# Altium footprint library SK32SMA-3G.PcbLib: 1 footprints
Each footprint in its own frame and in the unit in brackets; x right, y up, seen from the top. Pads: shape width x height; smd on the part's side, far side on the other; paste and mask are expansions set on the pad; w line width, h text height; cw(c..) or ccw(c..) is an arc to the next point about the centre after c.
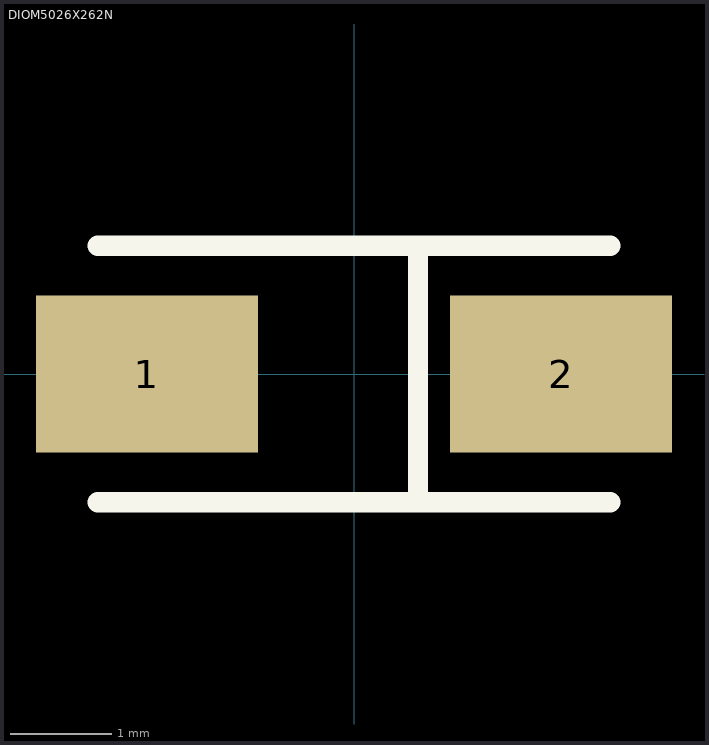
[diagram p0: the footprint, top view; thin cyan lines are the x and y axes]

## DIOM5026X262N [mm]
pads (2):
  rect 2.2x1.55 smd: 1(-2.05,0) 2(2.05,0)
Top Overlay:
  lines w0.2: -2.54,-1.27 2.54,-1.27 ; -2.54,1.27 2.54,1.27 ; 0.635,-1.27 0.635,1.27
3D body "diode - sma.STEP": height 1.27, standoff -1.13, extent -2.795,-1.46 2.795,1.46